# Altium footprint library MP_3P2.PcbLib: 1 footprints
Each footprint in its own frame and in the unit in brackets; x right, y up, seen from the top. Pads: shape width x height; smd on the part's side, far side on the other; paste and mask are expansions set on the pad; w line width, h text height; cw(c..) or ccw(c..) is an arc to the next point about the centre after c.
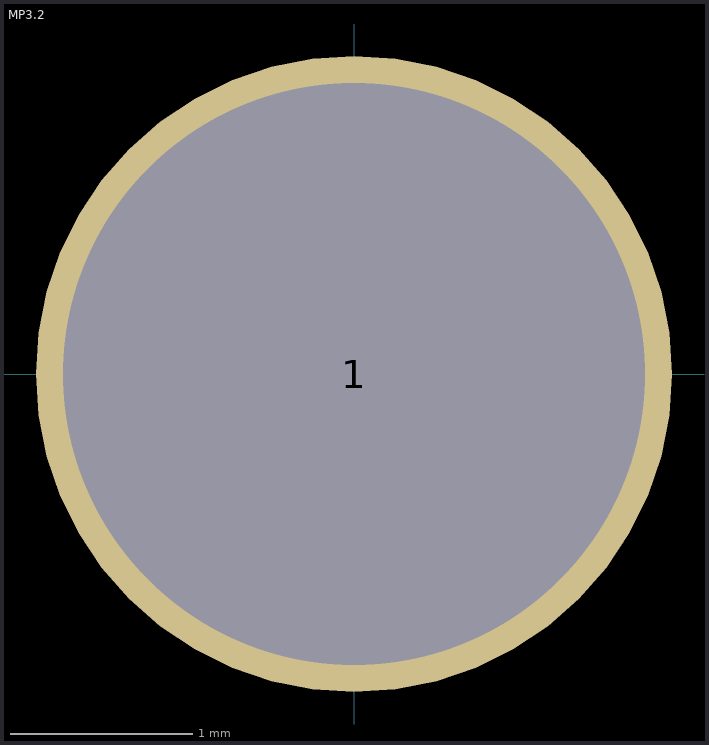
[diagram p0: the footprint, top view; thin cyan lines are the x and y axes]

## MP3.2 [mm]
pads (1):
  round 3.5 hole 3.2: 1(0,0)
3D body "m3-5mm.sldprt": height 2.98, standoff -2.73, extent -2.75,-2.747 2.738,2.747